# Altium integrated library Renesas Memory.IntLib: 284 symbols (part 6 of 9)
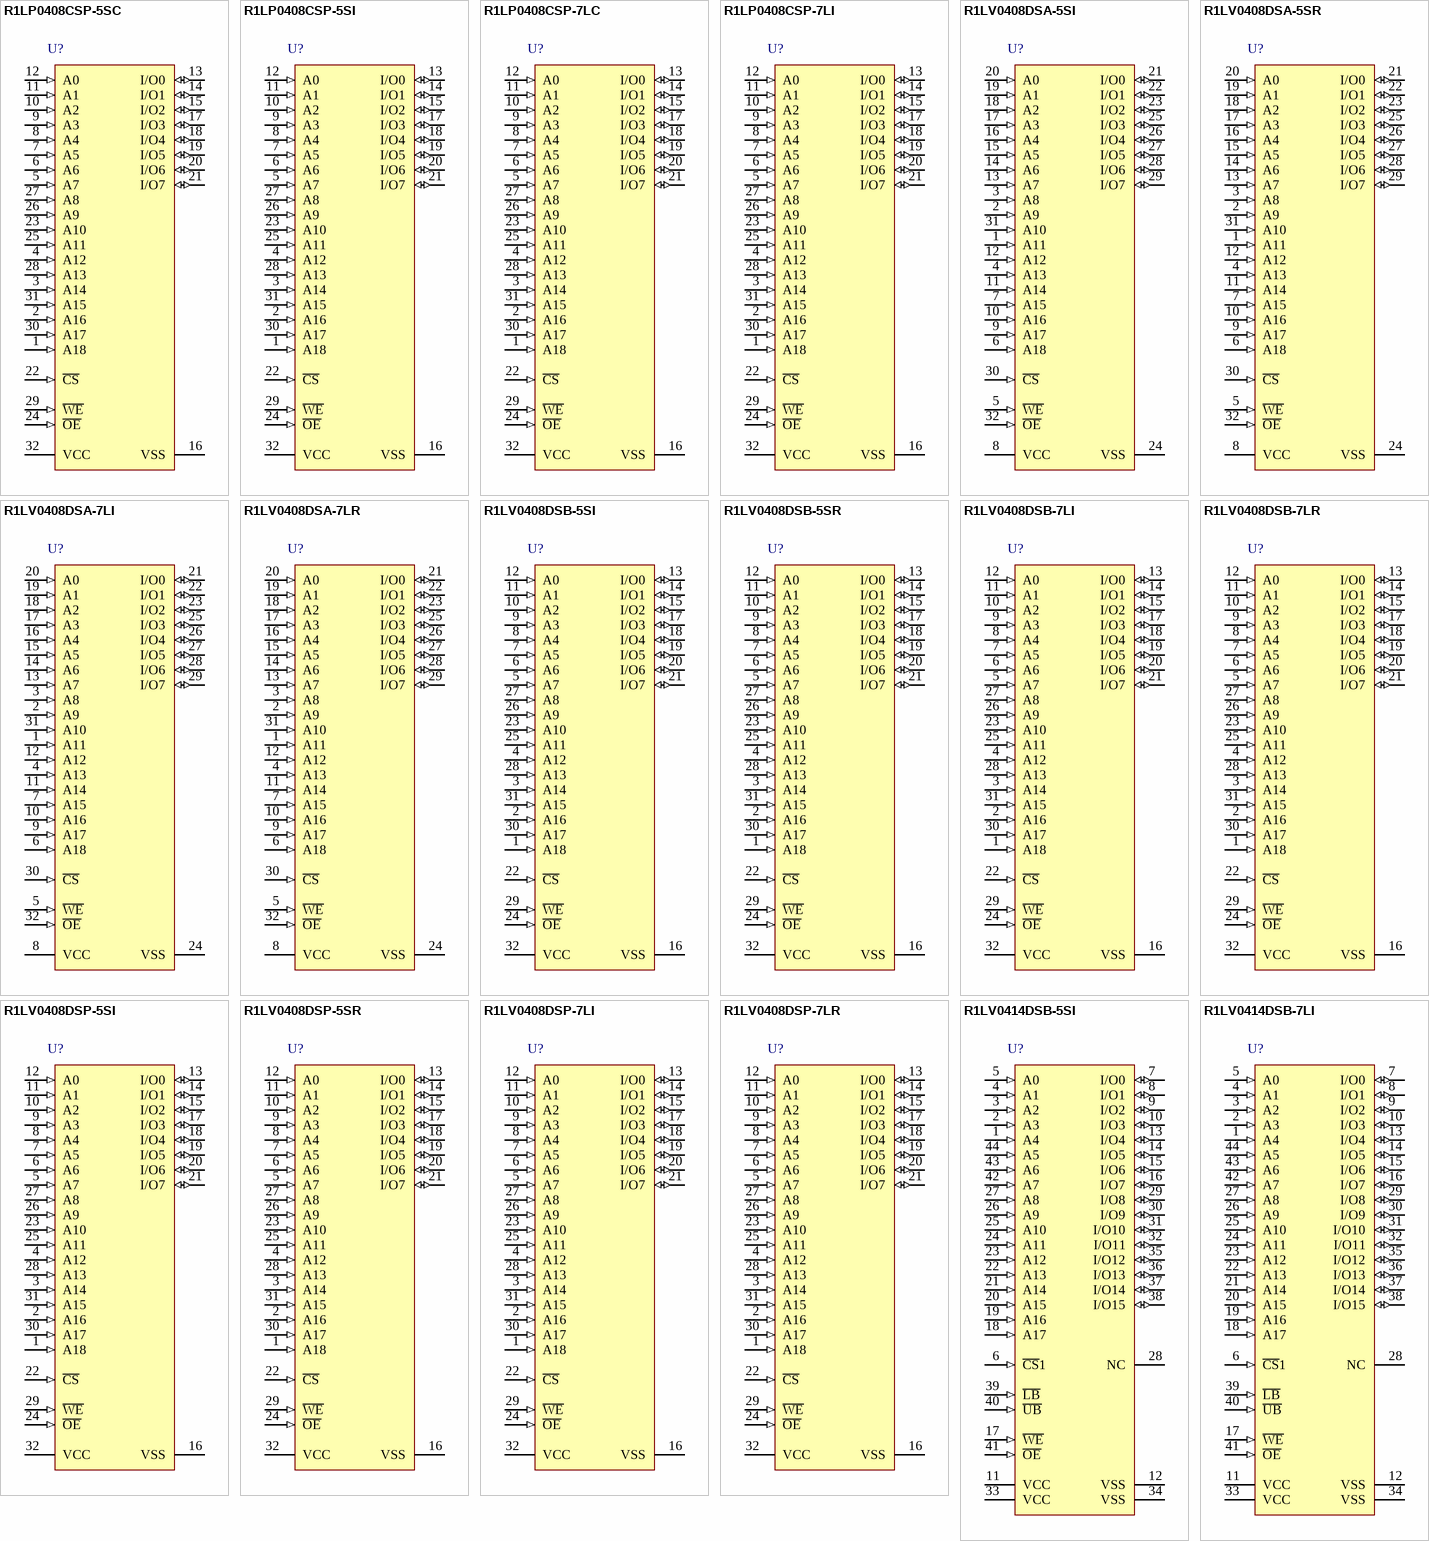
[diagram p20: symbols R1LP0408CSP-5SC to R1LV0414DSB-7LI]

## R1LV0408DSA-5SI
designator U?
R1LV0408D Series 4M SRAM (512-kword x 8-bit); Published: 3-Mar-2010; DatasheetVersion: Rev.1.00, May-2007; PackageVersion: Sep-2005; PackageReference: PTSA0032KB-A; Publisher: Altium Limited; PackageDescription: 32-Pin Plastic Thin Shrink Small Outline Package 0.5 mm Pitch; Code_JEITA: P-TSOP(1)32-8x11.8-0.50; ComponentLink1Description: Manufacturer Link; ComponentLink1URL: http://sg.renesas.com/products/memory/memory_category_landing.jsp; ComponentLink2Description: Datasheet; ComponentLink2URL: http://documentation.renesas.com/eng/products/memory/rej03c0310_r1lv0408d.pdf; ComponentLink3Description: Packaging Specification; ComponentLink3URL: http://sg.renesas.com/media/products/common_info/package/pdf/ic/code/ptsa0032kb_a.pdf
footprint PTSA0032KB-A_N (TSSOP, 32-Leads, Body 8x11.8mm, Pitch 0.5mm, IPC Medium Density)
footprint PTSA0032KB-A_L (TSSOP, 32-Leads, Body 8x11.8mm, Pitch 0.5mm, IPC High Density)
footprint PTSA0032KB-A_M (TSSOP, 32-Leads, Body 8x11.8mm, Pitch 0.5mm, IPC Low Density)
pins: 1 A11 (in), 2 A9 (in), 3 A8 (in), 4 A13 (in), 5 ~{WE} (in), 6 A18 (in), 7 A15 (in), 8 VCC (power), 9 A17 (in), 10 A16 (in), 11 A14 (in), 12 A12 (in), 13 A7 (in), 14 A6 (in), 15 A5 (in), 16 A4 (in), 17 A3 (in), 18 A2 (in), 19 A1 (in), 20 A0 (in), 21 I/O0 (io), 22 I/O1 (io), 23 I/O2 (io), 24 VSS (power), 25 I/O3 (io), 26 I/O4 (io), 27 I/O5 (io), 28 I/O6 (io), 29 I/O7 (io), 30 ~{CS} (in), 31 A10 (in), 32 ~{OE} (in)

## R1LV0408DSA-5SR
designator U?
R1LV0408D Series 4M SRAM (512-kword x 8-bit); Published: 3-Mar-2010; DatasheetVersion: Rev.1.00, May-2007; PackageVersion: Sep-2005; PackageReference: PTSA0032KB-A; Publisher: Altium Limited; PackageDescription: 32-Pin Plastic Thin Shrink Small Outline Package 0.5 mm Pitch; Code_JEITA: P-TSOP(1)32-8x11.8-0.50; ComponentLink1Description: Manufacturer Link; ComponentLink1URL: http://sg.renesas.com/products/memory/memory_category_landing.jsp; ComponentLink2Description: Datasheet; ComponentLink2URL: http://documentation.renesas.com/eng/products/memory/rej03c0310_r1lv0408d.pdf; ComponentLink3Description: Packaging Specification; ComponentLink3URL: http://sg.renesas.com/media/products/common_info/package/pdf/ic/code/ptsa0032kb_a.pdf
footprint PTSA0032KB-A_N (TSSOP, 32-Leads, Body 8x11.8mm, Pitch 0.5mm, IPC Medium Density)
footprint PTSA0032KB-A_L (TSSOP, 32-Leads, Body 8x11.8mm, Pitch 0.5mm, IPC High Density)
footprint PTSA0032KB-A_M (TSSOP, 32-Leads, Body 8x11.8mm, Pitch 0.5mm, IPC Low Density)
pins: 1 A11 (in), 2 A9 (in), 3 A8 (in), 4 A13 (in), 5 ~{WE} (in), 6 A18 (in), 7 A15 (in), 8 VCC (power), 9 A17 (in), 10 A16 (in), 11 A14 (in), 12 A12 (in), 13 A7 (in), 14 A6 (in), 15 A5 (in), 16 A4 (in), 17 A3 (in), 18 A2 (in), 19 A1 (in), 20 A0 (in), 21 I/O0 (io), 22 I/O1 (io), 23 I/O2 (io), 24 VSS (power), 25 I/O3 (io), 26 I/O4 (io), 27 I/O5 (io), 28 I/O6 (io), 29 I/O7 (io), 30 ~{CS} (in), 31 A10 (in), 32 ~{OE} (in)

## R1LV0408DSA-7LI
designator U?
R1LV0408D Series 4M SRAM (512-kword x 8-bit); Published: 3-Mar-2010; DatasheetVersion: Rev.1.00, May-2007; PackageVersion: Sep-2005; PackageReference: PTSA0032KB-A; Publisher: Altium Limited; PackageDescription: 32-Pin Plastic Thin Shrink Small Outline Package 0.5 mm Pitch; Code_JEITA: P-TSOP(1)32-8x11.8-0.50; ComponentLink1Description: Manufacturer Link; ComponentLink1URL: http://sg.renesas.com/products/memory/memory_category_landing.jsp; ComponentLink2Description: Datasheet; ComponentLink2URL: http://documentation.renesas.com/eng/products/memory/rej03c0310_r1lv0408d.pdf; ComponentLink3Description: Packaging Specification; ComponentLink3URL: http://sg.renesas.com/media/products/common_info/package/pdf/ic/code/ptsa0032kb_a.pdf
footprint PTSA0032KB-A_N (TSSOP, 32-Leads, Body 8x11.8mm, Pitch 0.5mm, IPC Medium Density)
footprint PTSA0032KB-A_L (TSSOP, 32-Leads, Body 8x11.8mm, Pitch 0.5mm, IPC High Density)
footprint PTSA0032KB-A_M (TSSOP, 32-Leads, Body 8x11.8mm, Pitch 0.5mm, IPC Low Density)
pins: 1 A11 (in), 2 A9 (in), 3 A8 (in), 4 A13 (in), 5 ~{WE} (in), 6 A18 (in), 7 A15 (in), 8 VCC (power), 9 A17 (in), 10 A16 (in), 11 A14 (in), 12 A12 (in), 13 A7 (in), 14 A6 (in), 15 A5 (in), 16 A4 (in), 17 A3 (in), 18 A2 (in), 19 A1 (in), 20 A0 (in), 21 I/O0 (io), 22 I/O1 (io), 23 I/O2 (io), 24 VSS (power), 25 I/O3 (io), 26 I/O4 (io), 27 I/O5 (io), 28 I/O6 (io), 29 I/O7 (io), 30 ~{CS} (in), 31 A10 (in), 32 ~{OE} (in)

## R1LV0408DSA-7LR
designator U?
R1LV0408D Series 4M SRAM (512-kword x 8-bit); Published: 3-Mar-2010; DatasheetVersion: Rev.1.00, May-2007; PackageVersion: Sep-2005; PackageReference: PTSA0032KB-A; Publisher: Altium Limited; PackageDescription: 32-Pin Plastic Thin Shrink Small Outline Package 0.5 mm Pitch; Code_JEITA: P-TSOP(1)32-8x11.8-0.50; ComponentLink1Description: Manufacturer Link; ComponentLink1URL: http://sg.renesas.com/products/memory/memory_category_landing.jsp; ComponentLink2Description: Datasheet; ComponentLink2URL: http://documentation.renesas.com/eng/products/memory/rej03c0310_r1lv0408d.pdf; ComponentLink3Description: Packaging Specification; ComponentLink3URL: http://sg.renesas.com/media/products/common_info/package/pdf/ic/code/ptsa0032kb_a.pdf
footprint PTSA0032KB-A_N (TSSOP, 32-Leads, Body 8x11.8mm, Pitch 0.5mm, IPC Medium Density)
footprint PTSA0032KB-A_L (TSSOP, 32-Leads, Body 8x11.8mm, Pitch 0.5mm, IPC High Density)
footprint PTSA0032KB-A_M (TSSOP, 32-Leads, Body 8x11.8mm, Pitch 0.5mm, IPC Low Density)
pins: 1 A11 (in), 2 A9 (in), 3 A8 (in), 4 A13 (in), 5 ~{WE} (in), 6 A18 (in), 7 A15 (in), 8 VCC (power), 9 A17 (in), 10 A16 (in), 11 A14 (in), 12 A12 (in), 13 A7 (in), 14 A6 (in), 15 A5 (in), 16 A4 (in), 17 A3 (in), 18 A2 (in), 19 A1 (in), 20 A0 (in), 21 I/O0 (io), 22 I/O1 (io), 23 I/O2 (io), 24 VSS (power), 25 I/O3 (io), 26 I/O4 (io), 27 I/O5 (io), 28 I/O6 (io), 29 I/O7 (io), 30 ~{CS} (in), 31 A10 (in), 32 ~{OE} (in)

## R1LV0408DSB-5SI
designator U?
R1LV0408D Series 4M SRAM (512-kword x 8-bit); Published: 3-Mar-2010; DatasheetVersion: Rev.1.00, May-2007; PackageVersion: Sep-2005; PackageReference: PTSB0032DA-A; Publisher: Altium Limited; PackageDescription: 32-Pin Plastic Small Outline Package 1.27 mm Pitch; Code_JEITA: P-TSOP(2)32-10.16x20.95-1.27; ComponentLink1Description: Manufacturer Link; ComponentLink1URL: http://sg.renesas.com/products/memory/memory_category_landing.jsp; ComponentLink2Description: Datasheet; ComponentLink2URL: http://documentation.renesas.com/eng/products/memory/rej03c0310_r1lv0408d.pdf; ComponentLink3Description: Packaging Specification; ComponentLink3URL: http://sg.renesas.com/media/products/common_info/package/pdf/ic/code/ptsb0032da_a.pdf
footprint PTSB0032DA-A_N (SOP, 32-Leads, Body 20.95x10.16mm, Pitch 1.27mm, IPC Medium Density)
footprint PTSB0032DA-A_L (SOP, 32-Leads, Body 20.95x10.16mm, Pitch 1.27mm, IPC High Density)
footprint PTSB0032DA-A_M (SOP, 32-Leads, Body 20.95x10.16mm, Pitch 1.27mm, IPC Low Density)
pins: 1 A18 (in), 2 A16 (in), 3 A14 (in), 4 A12 (in), 5 A7 (in), 6 A6 (in), 7 A5 (in), 8 A4 (in), 9 A3 (in), 10 A2 (in), 11 A1 (in), 12 A0 (in), 13 I/O0 (io), 14 I/O1 (io), 15 I/O2 (io), 16 VSS (power), 17 I/O3 (io), 18 I/O4 (io), 19 I/O5 (io), 20 I/O6 (io), 21 I/O7 (io), 22 ~{CS} (in), 23 A10 (in), 24 ~{OE} (in), 25 A11 (in), 26 A9 (in), 27 A8 (in), 28 A13 (in), 29 ~{WE} (in), 30 A17 (in), 31 A15 (in), 32 VCC (power)

## R1LV0408DSB-5SR
designator U?
R1LV0408D Series 4M SRAM (512-kword x 8-bit); Published: 3-Mar-2010; DatasheetVersion: Rev.1.00, May-2007; PackageVersion: Sep-2005; PackageReference: PTSB0032DA-A; Publisher: Altium Limited; PackageDescription: 32-Pin Plastic Small Outline Package 1.27 mm Pitch; Code_JEITA: P-TSOP(2)32-10.16x20.95-1.27; ComponentLink1Description: Manufacturer Link; ComponentLink1URL: http://sg.renesas.com/products/memory/memory_category_landing.jsp; ComponentLink2Description: Datasheet; ComponentLink2URL: http://documentation.renesas.com/eng/products/memory/rej03c0310_r1lv0408d.pdf; ComponentLink3Description: Packaging Specification; ComponentLink3URL: http://sg.renesas.com/media/products/common_info/package/pdf/ic/code/ptsb0032da_a.pdf
footprint PTSB0032DA-A_N (SOP, 32-Leads, Body 20.95x10.16mm, Pitch 1.27mm, IPC Medium Density)
footprint PTSB0032DA-A_L (SOP, 32-Leads, Body 20.95x10.16mm, Pitch 1.27mm, IPC High Density)
footprint PTSB0032DA-A_M (SOP, 32-Leads, Body 20.95x10.16mm, Pitch 1.27mm, IPC Low Density)
pins: 1 A18 (in), 2 A16 (in), 3 A14 (in), 4 A12 (in), 5 A7 (in), 6 A6 (in), 7 A5 (in), 8 A4 (in), 9 A3 (in), 10 A2 (in), 11 A1 (in), 12 A0 (in), 13 I/O0 (io), 14 I/O1 (io), 15 I/O2 (io), 16 VSS (power), 17 I/O3 (io), 18 I/O4 (io), 19 I/O5 (io), 20 I/O6 (io), 21 I/O7 (io), 22 ~{CS} (in), 23 A10 (in), 24 ~{OE} (in), 25 A11 (in), 26 A9 (in), 27 A8 (in), 28 A13 (in), 29 ~{WE} (in), 30 A17 (in), 31 A15 (in), 32 VCC (power)

## R1LV0408DSB-7LI
designator U?
R1LV0408D Series 4M SRAM (512-kword x 8-bit); Published: 3-Mar-2010; DatasheetVersion: Rev.1.00, May-2007; PackageVersion: Sep-2005; PackageReference: PTSB0032DA-A; Publisher: Altium Limited; PackageDescription: 32-Pin Plastic Small Outline Package 1.27 mm Pitch; Code_JEITA: P-TSOP(2)32-10.16x20.95-1.27; ComponentLink1Description: Manufacturer Link; ComponentLink1URL: http://sg.renesas.com/products/memory/memory_category_landing.jsp; ComponentLink2Description: Datasheet; ComponentLink2URL: http://documentation.renesas.com/eng/products/memory/rej03c0310_r1lv0408d.pdf; ComponentLink3Description: Packaging Specification; ComponentLink3URL: http://sg.renesas.com/media/products/common_info/package/pdf/ic/code/ptsb0032da_a.pdf
footprint PTSB0032DA-A_N (SOP, 32-Leads, Body 20.95x10.16mm, Pitch 1.27mm, IPC Medium Density)
footprint PTSB0032DA-A_L (SOP, 32-Leads, Body 20.95x10.16mm, Pitch 1.27mm, IPC High Density)
footprint PTSB0032DA-A_M (SOP, 32-Leads, Body 20.95x10.16mm, Pitch 1.27mm, IPC Low Density)
pins: 1 A18 (in), 2 A16 (in), 3 A14 (in), 4 A12 (in), 5 A7 (in), 6 A6 (in), 7 A5 (in), 8 A4 (in), 9 A3 (in), 10 A2 (in), 11 A1 (in), 12 A0 (in), 13 I/O0 (io), 14 I/O1 (io), 15 I/O2 (io), 16 VSS (power), 17 I/O3 (io), 18 I/O4 (io), 19 I/O5 (io), 20 I/O6 (io), 21 I/O7 (io), 22 ~{CS} (in), 23 A10 (in), 24 ~{OE} (in), 25 A11 (in), 26 A9 (in), 27 A8 (in), 28 A13 (in), 29 ~{WE} (in), 30 A17 (in), 31 A15 (in), 32 VCC (power)

## R1LV0408DSB-7LR
designator U?
R1LV0408D Series 4M SRAM (512-kword x 8-bit); Published: 3-Mar-2010; DatasheetVersion: Rev.1.00, May-2007; PackageVersion: Sep-2005; PackageReference: PTSB0032DA-A; Publisher: Altium Limited; PackageDescription: 32-Pin Plastic Small Outline Package 1.27 mm Pitch; Code_JEITA: P-TSOP(2)32-10.16x20.95-1.27; ComponentLink1Description: Manufacturer Link; ComponentLink1URL: http://sg.renesas.com/products/memory/memory_category_landing.jsp; ComponentLink2Description: Datasheet; ComponentLink2URL: http://documentation.renesas.com/eng/products/memory/rej03c0310_r1lv0408d.pdf; ComponentLink3Description: Packaging Specification; ComponentLink3URL: http://sg.renesas.com/media/products/common_info/package/pdf/ic/code/ptsb0032da_a.pdf
footprint PTSB0032DA-A_N (SOP, 32-Leads, Body 20.95x10.16mm, Pitch 1.27mm, IPC Medium Density)
footprint PTSB0032DA-A_L (SOP, 32-Leads, Body 20.95x10.16mm, Pitch 1.27mm, IPC High Density)
footprint PTSB0032DA-A_M (SOP, 32-Leads, Body 20.95x10.16mm, Pitch 1.27mm, IPC Low Density)
pins: 1 A18 (in), 2 A16 (in), 3 A14 (in), 4 A12 (in), 5 A7 (in), 6 A6 (in), 7 A5 (in), 8 A4 (in), 9 A3 (in), 10 A2 (in), 11 A1 (in), 12 A0 (in), 13 I/O0 (io), 14 I/O1 (io), 15 I/O2 (io), 16 VSS (power), 17 I/O3 (io), 18 I/O4 (io), 19 I/O5 (io), 20 I/O6 (io), 21 I/O7 (io), 22 ~{CS} (in), 23 A10 (in), 24 ~{OE} (in), 25 A11 (in), 26 A9 (in), 27 A8 (in), 28 A13 (in), 29 ~{WE} (in), 30 A17 (in), 31 A15 (in), 32 VCC (power)

## R1LV0408DSP-5SI
designator U?
R1LV0408D Series 4M SRAM (512-kword x 8-bit); Published: 3-Mar-2010; DatasheetVersion: Rev.1.00, May-2007; PackageVersion: Sep-2005; PackageReference: PRSP0032DA-A; Publisher: Altium Limited; PackageDescription: 32-Pin Plastic Small Outline Package, 20.8 x 11.4 mm Body, 1.27 mm Pitch; Code_JEITA: P-SOP32-11.4x20.75-1.27; ComponentLink1Description: Manufacturer Link; ComponentLink1URL: http://sg.renesas.com/products/memory/memory_category_landing.jsp; ComponentLink2Description: Datasheet; ComponentLink2URL: http://documentation.renesas.com/eng/products/memory/rej03c0310_r1lv0408d.pdf; ComponentLink3Description: Packaging Specification; ComponentLink3URL: http://sg.renesas.com/media/products/common_info/package/pdf/ic/code/prsp0032da_a.pdf
footprint PRSP0032DA-A_N (SOP, 32-Leads, Body 20.8x11.4mm, Pitch 1.27mm, IPC Medium Density)
footprint PRSP0032DA-A_L (SOP, 32-Leads, Body 20.8x11.4mm, Pitch 1.27mm, IPC High Density)
footprint PRSP0032DA-A_M (SOP, 32-Leads, Body 20.8x11.4mm, Pitch 1.27mm, IPC Low Density)
pins: 1 A18 (in), 2 A16 (in), 3 A14 (in), 4 A12 (in), 5 A7 (in), 6 A6 (in), 7 A5 (in), 8 A4 (in), 9 A3 (in), 10 A2 (in), 11 A1 (in), 12 A0 (in), 13 I/O0 (io), 14 I/O1 (io), 15 I/O2 (io), 16 VSS (power), 17 I/O3 (io), 18 I/O4 (io), 19 I/O5 (io), 20 I/O6 (io), 21 I/O7 (io), 22 ~{CS} (in), 23 A10 (in), 24 ~{OE} (in), 25 A11 (in), 26 A9 (in), 27 A8 (in), 28 A13 (in), 29 ~{WE} (in), 30 A17 (in), 31 A15 (in), 32 VCC (power)

## R1LV0408DSP-5SR
designator U?
R1LV0408D Series 4M SRAM (512-kword x 8-bit); Published: 3-Mar-2010; DatasheetVersion: Rev.1.00, May-2007; PackageVersion: Sep-2005; PackageReference: PRSP0032DA-A; Publisher: Altium Limited; PackageDescription: 32-Pin Plastic Small Outline Package, 20.8 x 11.4 mm Body, 1.27 mm Pitch; Code_JEITA: P-SOP32-11.4x20.75-1.27; ComponentLink1Description: Manufacturer Link; ComponentLink1URL: http://sg.renesas.com/products/memory/memory_category_landing.jsp; ComponentLink2Description: Datasheet; ComponentLink2URL: http://documentation.renesas.com/eng/products/memory/rej03c0310_r1lv0408d.pdf; ComponentLink3Description: Packaging Specification; ComponentLink3URL: http://sg.renesas.com/media/products/common_info/package/pdf/ic/code/prsp0032da_a.pdf
footprint PRSP0032DA-A_N (SOP, 32-Leads, Body 20.8x11.4mm, Pitch 1.27mm, IPC Medium Density)
footprint PRSP0032DA-A_L (SOP, 32-Leads, Body 20.8x11.4mm, Pitch 1.27mm, IPC High Density)
footprint PRSP0032DA-A_M (SOP, 32-Leads, Body 20.8x11.4mm, Pitch 1.27mm, IPC Low Density)
pins: 1 A18 (in), 2 A16 (in), 3 A14 (in), 4 A12 (in), 5 A7 (in), 6 A6 (in), 7 A5 (in), 8 A4 (in), 9 A3 (in), 10 A2 (in), 11 A1 (in), 12 A0 (in), 13 I/O0 (io), 14 I/O1 (io), 15 I/O2 (io), 16 VSS (power), 17 I/O3 (io), 18 I/O4 (io), 19 I/O5 (io), 20 I/O6 (io), 21 I/O7 (io), 22 ~{CS} (in), 23 A10 (in), 24 ~{OE} (in), 25 A11 (in), 26 A9 (in), 27 A8 (in), 28 A13 (in), 29 ~{WE} (in), 30 A17 (in), 31 A15 (in), 32 VCC (power)

## R1LV0408DSP-7LI
designator U?
R1LV0408D Series 4M SRAM (512-kword x 8-bit); Published: 3-Mar-2010; DatasheetVersion: Rev.1.00, May-2007; PackageVersion: Sep-2005; PackageReference: PRSP0032DA-A; Publisher: Altium Limited; PackageDescription: 32-Pin Plastic Small Outline Package, 20.8 x 11.4 mm Body, 1.27 mm Pitch; Code_JEITA: P-SOP32-11.4x20.75-1.27; ComponentLink1Description: Manufacturer Link; ComponentLink1URL: http://sg.renesas.com/products/memory/memory_category_landing.jsp; ComponentLink2Description: Datasheet; ComponentLink2URL: http://documentation.renesas.com/eng/products/memory/rej03c0310_r1lv0408d.pdf; ComponentLink3Description: Packaging Specification; ComponentLink3URL: http://sg.renesas.com/media/products/common_info/package/pdf/ic/code/prsp0032da_a.pdf
footprint PRSP0032DA-A_N (SOP, 32-Leads, Body 20.8x11.4mm, Pitch 1.27mm, IPC Medium Density)
footprint PRSP0032DA-A_L (SOP, 32-Leads, Body 20.8x11.4mm, Pitch 1.27mm, IPC High Density)
footprint PRSP0032DA-A_M (SOP, 32-Leads, Body 20.8x11.4mm, Pitch 1.27mm, IPC Low Density)
pins: 1 A18 (in), 2 A16 (in), 3 A14 (in), 4 A12 (in), 5 A7 (in), 6 A6 (in), 7 A5 (in), 8 A4 (in), 9 A3 (in), 10 A2 (in), 11 A1 (in), 12 A0 (in), 13 I/O0 (io), 14 I/O1 (io), 15 I/O2 (io), 16 VSS (power), 17 I/O3 (io), 18 I/O4 (io), 19 I/O5 (io), 20 I/O6 (io), 21 I/O7 (io), 22 ~{CS} (in), 23 A10 (in), 24 ~{OE} (in), 25 A11 (in), 26 A9 (in), 27 A8 (in), 28 A13 (in), 29 ~{WE} (in), 30 A17 (in), 31 A15 (in), 32 VCC (power)

## R1LV0408DSP-7LR
designator U?
R1LV0408D Series 4M SRAM (512-kword x 8-bit); Published: 3-Mar-2010; DatasheetVersion: Rev.1.00, May-2007; PackageVersion: Sep-2005; PackageReference: PRSP0032DA-A; Publisher: Altium Limited; PackageDescription: 32-Pin Plastic Small Outline Package, 20.8 x 11.4 mm Body, 1.27 mm Pitch; Code_JEITA: P-SOP32-11.4x20.75-1.27; ComponentLink1Description: Manufacturer Link; ComponentLink1URL: http://sg.renesas.com/products/memory/memory_category_landing.jsp; ComponentLink2Description: Datasheet; ComponentLink2URL: http://documentation.renesas.com/eng/products/memory/rej03c0310_r1lv0408d.pdf; ComponentLink3Description: Packaging Specification; ComponentLink3URL: http://sg.renesas.com/media/products/common_info/package/pdf/ic/code/prsp0032da_a.pdf
footprint PRSP0032DA-A_N (SOP, 32-Leads, Body 20.8x11.4mm, Pitch 1.27mm, IPC Medium Density)
footprint PRSP0032DA-A_L (SOP, 32-Leads, Body 20.8x11.4mm, Pitch 1.27mm, IPC High Density)
footprint PRSP0032DA-A_M (SOP, 32-Leads, Body 20.8x11.4mm, Pitch 1.27mm, IPC Low Density)
pins: 1 A18 (in), 2 A16 (in), 3 A14 (in), 4 A12 (in), 5 A7 (in), 6 A6 (in), 7 A5 (in), 8 A4 (in), 9 A3 (in), 10 A2 (in), 11 A1 (in), 12 A0 (in), 13 I/O0 (io), 14 I/O1 (io), 15 I/O2 (io), 16 VSS (power), 17 I/O3 (io), 18 I/O4 (io), 19 I/O5 (io), 20 I/O6 (io), 21 I/O7 (io), 22 ~{CS} (in), 23 A10 (in), 24 ~{OE} (in), 25 A11 (in), 26 A9 (in), 27 A8 (in), 28 A13 (in), 29 ~{WE} (in), 30 A17 (in), 31 A15 (in), 32 VCC (power)

## R1LV0414DSB-5SI
designator U?
R1LV0414D Series 4M SRAM (256-kword x 16-bit); Published: 3-Mar-2010; DatasheetVersion: Rev.1.00, May-2007; PackageVersion: Sep-2005; PackageReference: PTSB0044GA-A; Publisher: Altium Limited; PackageDescription: 44-Pin Plastic Small Outline Package 0.8 mm Pitch; Code_JEITA: P-TSOP(2)44-10.16x18.41-0.80; ComponentLink1Description: Manufacturer Link; ComponentLink1URL: http://sg.renesas.com/products/memory/memory_category_landing.jsp; ComponentLink2Description: Datasheet; ComponentLink2URL: http://documentation.renesas.com/eng/products/memory/rej03c0312_r1lv0414d.pdf; ComponentLink3Description: Packaging Specification; ComponentLink3URL: http://sg.renesas.com/media/products/common_info/package/pdf/ic/code/ptsb0044ga_a.pdf
footprint PTSB0044GA-A_N (SOP, 44-Leads, Body 18.4x10.16mm, Pitch 0.8mm, IPC Medium Density)
footprint PTSB0044GA-A_L (SOP, 44-Leads, Body 18.4x10.16mm, Pitch 0.8mm, IPC High Density)
footprint PTSB0044GA-A_M (SOP, 44-Leads, Body 18.4x10.16mm, Pitch 0.8mm, IPC Low Density)
pins: 1 A4 (in), 2 A3 (in), 3 A2 (in), 4 A1 (in), 5 A0 (in), 6 ~{CS}1 (in), 7 I/O0 (io), 8 I/O1 (io), 9 I/O2 (io), 10 I/O3 (io), 11 VCC (power), 12 VSS (power), 13 I/O4 (io), 14 I/O5 (io), 15 I/O6 (io), 16 I/O7 (io), 17 ~{WE} (in), 18 A17 (in), 19 A16 (in), 20 A15 (in), 21 A14 (in), 22 A13 (in), 23 A12 (in), 24 A11 (in), 25 A10 (in), 26 A9 (in), 27 A8 (in), 28 NC, 29 I/O8 (io), 30 I/O9 (io), 31 I/O10 (io), 32 I/O11 (io), 33 VCC (power), 34 VSS (power), 35 I/O12 (io), 36 I/O13 (io), 37 I/O14 (io), 38 I/O15 (io), 39 ~{LB} (in), 40 ~{UB} (in), 41 ~{OE} (in), 42 A7 (in), 43 A6 (in), 44 A5 (in)

## R1LV0414DSB-7LI
designator U?
R1LV0414D Series 4M SRAM (256-kword x 16-bit); Published: 3-Mar-2010; DatasheetVersion: Rev.1.00, May-2007; PackageVersion: Sep-2005; PackageReference: PTSB0044GA-A; Publisher: Altium Limited; PackageDescription: 44-Pin Plastic Small Outline Package 0.8 mm Pitch; Code_JEITA: P-TSOP(2)44-10.16x18.41-0.80; ComponentLink1Description: Manufacturer Link; ComponentLink1URL: http://sg.renesas.com/products/memory/memory_category_landing.jsp; ComponentLink2Description: Datasheet; ComponentLink2URL: http://documentation.renesas.com/eng/products/memory/rej03c0312_r1lv0414d.pdf; ComponentLink3Description: Packaging Specification; ComponentLink3URL: http://sg.renesas.com/media/products/common_info/package/pdf/ic/code/ptsb0044ga_a.pdf
footprint PTSB0044GA-A_N (SOP, 44-Leads, Body 18.4x10.16mm, Pitch 0.8mm, IPC Medium Density)
footprint PTSB0044GA-A_L (SOP, 44-Leads, Body 18.4x10.16mm, Pitch 0.8mm, IPC High Density)
footprint PTSB0044GA-A_M (SOP, 44-Leads, Body 18.4x10.16mm, Pitch 0.8mm, IPC Low Density)
pins: 1 A4 (in), 2 A3 (in), 3 A2 (in), 4 A1 (in), 5 A0 (in), 6 ~{CS}1 (in), 7 I/O0 (io), 8 I/O1 (io), 9 I/O2 (io), 10 I/O3 (io), 11 VCC (power), 12 VSS (power), 13 I/O4 (io), 14 I/O5 (io), 15 I/O6 (io), 16 I/O7 (io), 17 ~{WE} (in), 18 A17 (in), 19 A16 (in), 20 A15 (in), 21 A14 (in), 22 A13 (in), 23 A12 (in), 24 A11 (in), 25 A10 (in), 26 A9 (in), 27 A8 (in), 28 NC, 29 I/O8 (io), 30 I/O9 (io), 31 I/O10 (io), 32 I/O11 (io), 33 VCC (power), 34 VSS (power), 35 I/O12 (io), 36 I/O13 (io), 37 I/O14 (io), 38 I/O15 (io), 39 ~{LB} (in), 40 ~{UB} (in), 41 ~{OE} (in), 42 A7 (in), 43 A6 (in), 44 A5 (in)

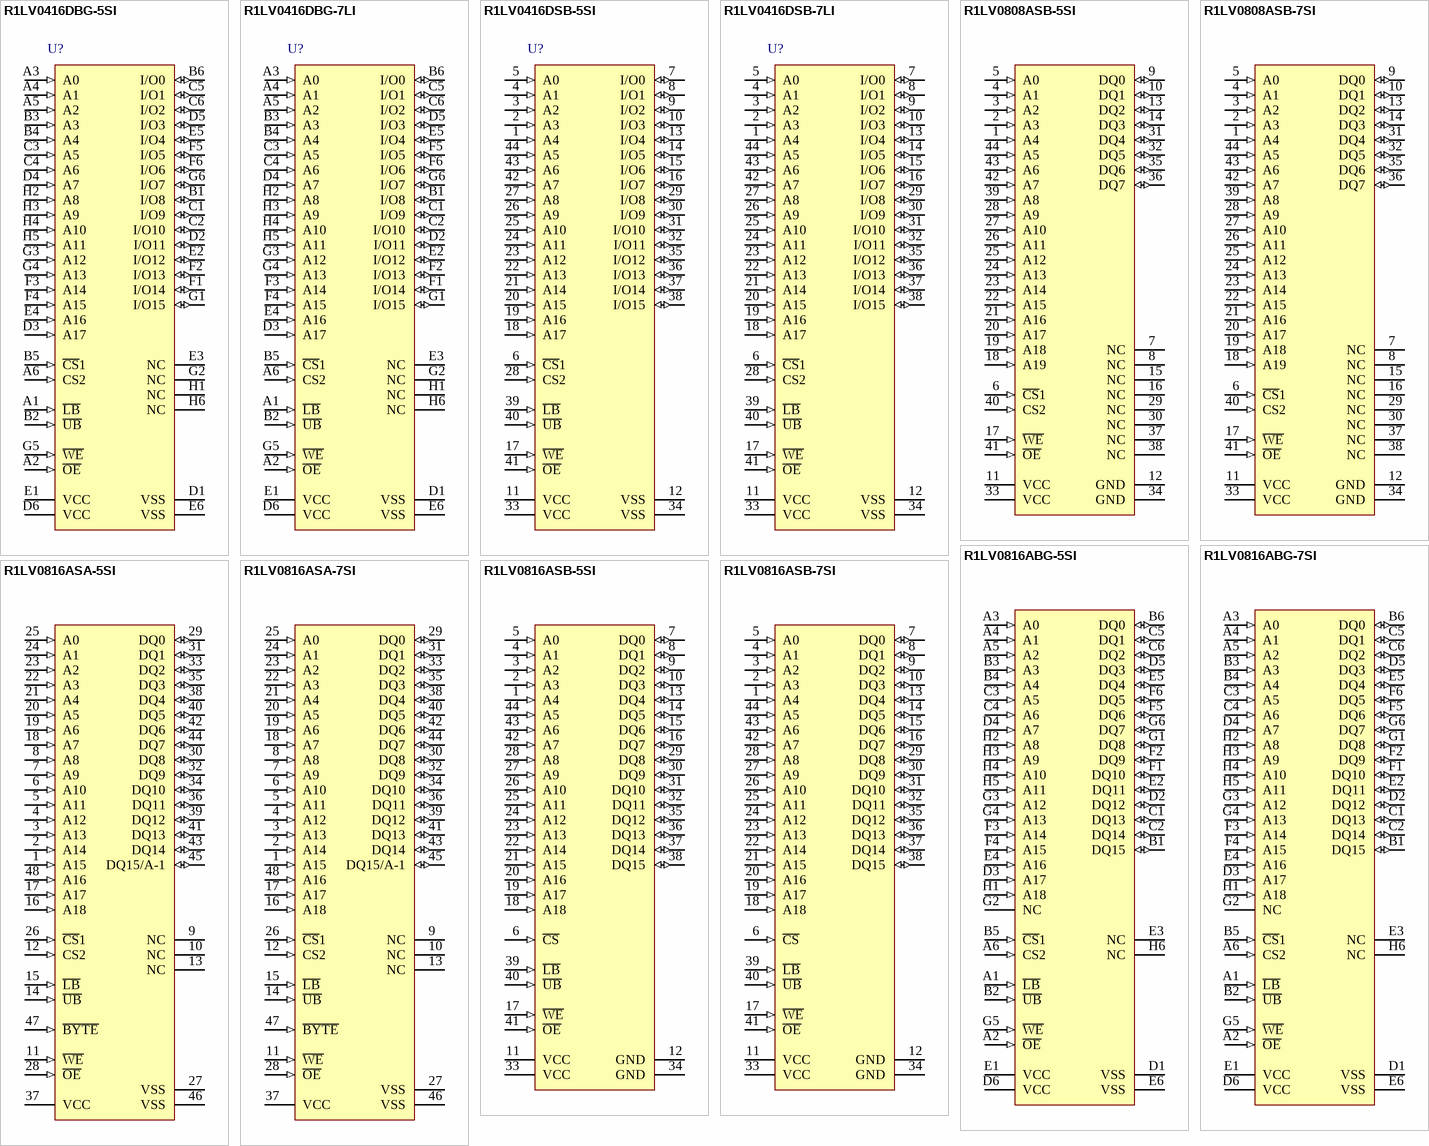
[diagram p9: symbols R1LV0416DBG-5SI to R1LV0816ASB-7SI]

## R1LV0416DBG-5SI
designator U?
R1LV0416D Series 4M SRAM (256-kword x 16-bit); Published: 3-Mar-2010; DatasheetVersion: Rev.1.00, May-2007; PackageVersion: Sep-2005; PackageReference: PTBG0048HB-A; Publisher: Altium Limited; PackageDescription: 48-Ball Plastic Thin Fine-Pitch BGA, 8.5 x7.5 mm Body, 0.75 mm Pitch; Supplier 1: Digi-Key; Supplier Part Number 1: R1LV0416DBG-5SI-ND; Code_JEITA: P-TFBGA48-7.5x8.5-0.75; ComponentLink1Description: Manufacturer Link; ComponentLink1URL: http://sg.renesas.com/products/memory/memory_category_landing.jsp; ComponentLink2Description: Datasheet; ComponentLink2URL: http://documentation.renesas.com/eng/products/memory/rej03c0311_r1lv0416d.pdf; ComponentLink3Description: Packaging Specification; ComponentLink3URL: http://sg.renesas.com/media/products/common_info/package/pdf/ic/code/ptbg0048hb_a.pdf
footprint PTBG0048HB-A (BGA, 48-Leads, Body 8.5x7.5mm, Pitch 0.75mm)
pins: A1 ~{LB} (in), A2 ~{OE} (in), A3 A0 (in), A4 A1 (in), A5 A2 (in), A6 CS2 (in), B1 I/O8 (io), B2 ~{UB} (in), B3 A3 (in), B4 A4 (in), B5 ~{CS}1 (in), B6 I/O0 (io), C1 I/O9 (io), C2 I/O10 (io), C3 A5 (in), C4 A6 (in), C5 I/O1 (io), C6 I/O2 (io), D1 VSS (power), D2 I/O11 (io), D3 A17 (in), D4 A7 (in), D5 I/O3 (io), D6 VCC (power), E1 VCC (power), E2 I/O12 (io), E3 NC, E4 A16 (in), E5 I/O4 (io), E6 VSS (power), F1 I/O14 (io), F2 I/O13 (io), F3 A14 (in), F4 A15 (in), F5 I/O5 (io), F6 I/O6 (io), G1 I/O15 (io), G2 NC, G3 A12 (in), G4 A13 (in), G5 ~{WE} (in), G6 I/O7 (io), H1 NC, H2 A8 (in), H3 A9 (in), H4 A10 (in), H5 A11 (in), H6 NC

## R1LV0416DBG-7LI
designator U?
R1LV0416D Series 4M SRAM (256-kword x 16-bit); Published: 3-Mar-2010; DatasheetVersion: Rev.1.00, May-2007; PackageVersion: Sep-2005; PackageReference: PTBG0048HB-A; Publisher: Altium Limited; PackageDescription: 48-Ball Plastic Thin Fine-Pitch BGA, 8.5 x7.5 mm Body, 0.75 mm Pitch; Code_JEITA: P-TFBGA48-7.5x8.5-0.75; ComponentLink1Description: Manufacturer Link; ComponentLink1URL: http://sg.renesas.com/products/memory/memory_category_landing.jsp; ComponentLink2Description: Datasheet; ComponentLink2URL: http://documentation.renesas.com/eng/products/memory/rej03c0311_r1lv0416d.pdf; ComponentLink3Description: Packaging Specification; ComponentLink3URL: http://sg.renesas.com/media/products/common_info/package/pdf/ic/code/ptbg0048hb_a.pdf
footprint PTBG0048HB-A (BGA, 48-Leads, Body 8.5x7.5mm, Pitch 0.75mm)
pins: A1 ~{LB} (in), A2 ~{OE} (in), A3 A0 (in), A4 A1 (in), A5 A2 (in), A6 CS2 (in), B1 I/O8 (io), B2 ~{UB} (in), B3 A3 (in), B4 A4 (in), B5 ~{CS}1 (in), B6 I/O0 (io), C1 I/O9 (io), C2 I/O10 (io), C3 A5 (in), C4 A6 (in), C5 I/O1 (io), C6 I/O2 (io), D1 VSS (power), D2 I/O11 (io), D3 A17 (in), D4 A7 (in), D5 I/O3 (io), D6 VCC (power), E1 VCC (power), E2 I/O12 (io), E3 NC, E4 A16 (in), E5 I/O4 (io), E6 VSS (power), F1 I/O14 (io), F2 I/O13 (io), F3 A14 (in), F4 A15 (in), F5 I/O5 (io), F6 I/O6 (io), G1 I/O15 (io), G2 NC, G3 A12 (in), G4 A13 (in), G5 ~{WE} (in), G6 I/O7 (io), H1 NC, H2 A8 (in), H3 A9 (in), H4 A10 (in), H5 A11 (in), H6 NC

## R1LV0416DSB-5SI
designator U?
R1LV0416D Series 4M SRAM (256-kword x 16-bit); Published: 3-Mar-2010; DatasheetVersion: Rev.1.00, May-2007; PackageVersion: Sep-2005; PackageReference: PTSB0044GA-A; Publisher: Altium Limited; PackageDescription: 44-Pin Plastic Small Outline Package 0.8 mm Pitch; Code_JEITA: P-TSOP(2)44-10.16x18.41-0.80; ComponentLink1Description: Manufacturer Link; ComponentLink1URL: http://sg.renesas.com/products/memory/memory_category_landing.jsp; ComponentLink2Description: Datasheet; ComponentLink2URL: http://documentation.renesas.com/eng/products/memory/rej03c0311_r1lv0416d.pdf; ComponentLink3Description: Packaging Specification; ComponentLink3URL: http://sg.renesas.com/media/products/common_info/package/pdf/ic/code/ptsb0044ga_a.pdf
footprint PTSB0044GA-A_N (SOP, 44-Leads, Body 18.4x10.16mm, Pitch 0.8mm, IPC Medium Density)
footprint PTSB0044GA-A_L (SOP, 44-Leads, Body 18.4x10.16mm, Pitch 0.8mm, IPC High Density)
footprint PTSB0044GA-A_M (SOP, 44-Leads, Body 18.4x10.16mm, Pitch 0.8mm, IPC Low Density)
pins: 1 A4 (in), 2 A3 (in), 3 A2 (in), 4 A1 (in), 5 A0 (in), 6 ~{CS}1 (in), 7 I/O0 (io), 8 I/O1 (io), 9 I/O2 (io), 10 I/O3 (io), 11 VCC (power), 12 VSS (power), 13 I/O4 (io), 14 I/O5 (io), 15 I/O6 (io), 16 I/O7 (io), 17 ~{WE} (in), 18 A17 (in), 19 A16 (in), 20 A15 (in), 21 A14 (in), 22 A13 (in), 23 A12 (in), 24 A11 (in), 25 A10 (in), 26 A9 (in), 27 A8 (in), 28 CS2 (in), 29 I/O8 (io), 30 I/O9 (io), 31 I/O10 (io), 32 I/O11 (io), 33 VCC (power), 34 VSS (power), 35 I/O12 (io), 36 I/O13 (io), 37 I/O14 (io), 38 I/O15 (io), 39 ~{LB} (in), 40 ~{UB} (in), 41 ~{OE} (in), 42 A7 (in), 43 A6 (in), 44 A5 (in)

## R1LV0416DSB-7LI
designator U?
R1LV0416D Series 4M SRAM (256-kword x 16-bit); Published: 3-Mar-2010; DatasheetVersion: Rev.1.00, May-2007; PackageVersion: Sep-2005; PackageReference: PTSB0044GA-A; Publisher: Altium Limited; PackageDescription: 44-Pin Plastic Small Outline Package 0.8 mm Pitch; Code_JEITA: P-TSOP(2)44-10.16x18.41-0.80; ComponentLink1Description: Manufacturer Link; ComponentLink1URL: http://sg.renesas.com/products/memory/memory_category_landing.jsp; ComponentLink2Description: Datasheet; ComponentLink2URL: http://documentation.renesas.com/eng/products/memory/rej03c0311_r1lv0416d.pdf; ComponentLink3Description: Packaging Specification; ComponentLink3URL: http://sg.renesas.com/media/products/common_info/package/pdf/ic/code/ptsb0044ga_a.pdf
footprint PTSB0044GA-A_N (SOP, 44-Leads, Body 18.4x10.16mm, Pitch 0.8mm, IPC Medium Density)
footprint PTSB0044GA-A_L (SOP, 44-Leads, Body 18.4x10.16mm, Pitch 0.8mm, IPC High Density)
footprint PTSB0044GA-A_M (SOP, 44-Leads, Body 18.4x10.16mm, Pitch 0.8mm, IPC Low Density)
pins: 1 A4 (in), 2 A3 (in), 3 A2 (in), 4 A1 (in), 5 A0 (in), 6 ~{CS}1 (in), 7 I/O0 (io), 8 I/O1 (io), 9 I/O2 (io), 10 I/O3 (io), 11 VCC (power), 12 VSS (power), 13 I/O4 (io), 14 I/O5 (io), 15 I/O6 (io), 16 I/O7 (io), 17 ~{WE} (in), 18 A17 (in), 19 A16 (in), 20 A15 (in), 21 A14 (in), 22 A13 (in), 23 A12 (in), 24 A11 (in), 25 A10 (in), 26 A9 (in), 27 A8 (in), 28 CS2 (in), 29 I/O8 (io), 30 I/O9 (io), 31 I/O10 (io), 32 I/O11 (io), 33 VCC (power), 34 VSS (power), 35 I/O12 (io), 36 I/O13 (io), 37 I/O14 (io), 38 I/O15 (io), 39 ~{LB} (in), 40 ~{UB} (in), 41 ~{OE} (in), 42 A7 (in), 43 A6 (in), 44 A5 (in)

## R1LV0808ASB-5SI
designator ?
R1LV0808ASB Series 8Mb Advanced LPSRAM (1024k word x 8bit); Published: 3-Mar-2010; DatasheetVersion: Rev.1.00, Aug-2009; PackageVersion: Jun-2009; PackageReference: PTSB0044GD-B; Publisher: Altium Limited; PackageDescription: 44-Pin Plastic Small Outline Package 0.8 mm Pitch; Code_JEITA: P-TSOP(2)44-10.16x18.41-0.80; ComponentLink1Description: Manufacturer Link; ComponentLink1URL: http://sg.renesas.com/products/memory/memory_category_landing.jsp; ComponentLink2Description: Datasheet; ComponentLink2URL: http://documentation.renesas.com/eng/products/memory/rej03c0394_r1lv0808asb_ds.pdf; ComponentLink3Description: Packaging Specification; ComponentLink3URL: http://sg.renesas.com/media/products/common_info/package/pdf/ic/code/ptsb0044gd_b.pdf
footprint PTSB0044GD-B_N (SOP, 44-Leads, Body 18.4x10.16mm, Pitch 0.8mm, IPC Medium Density)
footprint PTSB0044GD-B_L (SOP, 44-Leads, Body 18.4x10.16mm, Pitch 0.8mm, IPC High Density)
footprint PTSB0044GD-B_M (SOP, 44-Leads, Body 18.4x10.16mm, Pitch 0.8mm, IPC Low Density)
pins: 1 A4 (in), 2 A3 (in), 3 A2 (in), 4 A1 (in), 5 A0 (in), 6 ~{CS}1 (in), 7 NC, 8 NC, 9 DQ0 (io), 10 DQ1 (io), 11 VCC (power), 12 GND (power), 13 DQ2 (io), 14 DQ3 (io), 15 NC, 16 NC, 17 ~{WE} (in), 18 A19 (in), 19 A18 (in), 20 A17 (in), 21 A16 (in), 22 A15 (in), 23 A14 (in), 24 A13 (in), 25 A12 (in), 26 A11 (in), 27 A10 (in), 28 A9 (in), 29 NC, 30 NC, 31 DQ4 (io), 32 DQ5 (io), 33 VCC (power), 34 GND (power), 35 DQ6 (io), 36 DQ7 (io), 37 NC, 38 NC, 39 A8 (in), 40 CS2 (in), 41 ~{OE} (in), 42 A7 (in), 43 A6 (in), 44 A5 (in)

## R1LV0808ASB-7SI
designator ?
R1LV0808ASB Series 8Mb Advanced LPSRAM (1024k word x 8bit); Published: 3-Mar-2010; DatasheetVersion: Rev.1.00, Aug-2009; PackageVersion: Jun-2009; PackageReference: PTSB0044GD-B; Publisher: Altium Limited; PackageDescription: 44-Pin Plastic Small Outline Package 0.8 mm Pitch; Code_JEITA: P-TSOP(2)44-10.16x18.41-0.80; ComponentLink1Description: Manufacturer Link; ComponentLink1URL: http://sg.renesas.com/products/memory/memory_category_landing.jsp; ComponentLink2Description: Datasheet; ComponentLink2URL: http://documentation.renesas.com/eng/products/memory/rej03c0394_r1lv0808asb_ds.pdf; ComponentLink3Description: Packaging Specification; ComponentLink3URL: http://sg.renesas.com/media/products/common_info/package/pdf/ic/code/ptsb0044gd_b.pdf
footprint PTSB0044GD-B_N (SOP, 44-Leads, Body 18.4x10.16mm, Pitch 0.8mm, IPC Medium Density)
footprint PTSB0044GD-B_L (SOP, 44-Leads, Body 18.4x10.16mm, Pitch 0.8mm, IPC High Density)
footprint PTSB0044GD-B_M (SOP, 44-Leads, Body 18.4x10.16mm, Pitch 0.8mm, IPC Low Density)
pins: 1 A4 (in), 2 A3 (in), 3 A2 (in), 4 A1 (in), 5 A0 (in), 6 ~{CS}1 (in), 7 NC, 8 NC, 9 DQ0 (io), 10 DQ1 (io), 11 VCC (power), 12 GND (power), 13 DQ2 (io), 14 DQ3 (io), 15 NC, 16 NC, 17 ~{WE} (in), 18 A19 (in), 19 A18 (in), 20 A17 (in), 21 A16 (in), 22 A15 (in), 23 A14 (in), 24 A13 (in), 25 A12 (in), 26 A11 (in), 27 A10 (in), 28 A9 (in), 29 NC, 30 NC, 31 DQ4 (io), 32 DQ5 (io), 33 VCC (power), 34 GND (power), 35 DQ6 (io), 36 DQ7 (io), 37 NC, 38 NC, 39 A8 (in), 40 CS2 (in), 41 ~{OE} (in), 42 A7 (in), 43 A6 (in), 44 A5 (in)

## R1LV0816ABG-5SI
designator ?
R1LV0816ABG Series 8Mb Advanced LPSRAM (512k word x 16bit); Published: 3-Mar-2010; DatasheetVersion: Rev.1.00, Aug-2009; PackageVersion: Sep-2005; PackageReference: PTBG0048HB-A; Publisher: Altium Limited; PackageDescription: 48-Ball Plastic Thin Fine-Pitch BGA, 8.5 x7.5 mm Body, 0.75 mm Pitch; Supplier 1: Digi-Key; Supplier Part Number 1: R1LV0816ABG-5SI-ND; Code_JEITA: P-TFBGA48-7.5x8.5-0.75; ComponentLink1Description: Manufacturer Link; ComponentLink1URL: http://sg.renesas.com/products/memory/memory_category_landing.jsp; ComponentLink2Description: Datasheet; ComponentLink2URL: http://documentation.renesas.com/eng/products/memory/rej03c0393_r1lv0816abg_ds.pdf; ComponentLink3Description: Packaging Specification; ComponentLink3URL: http://sg.renesas.com/media/products/common_info/package/pdf/ic/code/ptbg0048hb_a.pdf
footprint PTBG0048HB-A (BGA, 48-Leads, Body 8.5x7.5mm, Pitch 0.75mm)
pins: A1 ~{LB} (in), A2 ~{OE} (in), A3 A0 (in), A4 A1 (in), A5 A2 (in), A6 CS2 (in), B1 DQ15 (io), B2 ~{UB} (in), B3 A3 (in), B4 A4 (in), B5 ~{CS}1 (in), B6 DQ0 (io), C1 DQ13 (io), C2 DQ14 (io), C3 A5 (in), C4 A6 (in), C5 DQ1 (io), C6 DQ2 (io), D1 VSS (power), D2 DQ12 (io), D3 A17 (in), D4 A7 (in), D5 DQ3 (io), D6 VCC (power), E1 VCC (power), E2 DQ11 (io), E3 NC, E4 A16 (in), E5 DQ4 (io), E6 VSS (power), F1 DQ10 (io), F2 DQ9 (io), F3 A14 (in), F4 A15 (in), F5 DQ6 (io), F6 DQ5 (io), G1 DQ8 (io), G2 NC, G3 A12 (in), G4 A13 (in), G5 ~{WE} (in), G6 DQ7 (io), H1 A18 (in), H2 A8 (in), H3 A9 (in), H4 A10 (in), H5 A11 (in), H6 NC

## R1LV0816ABG-7SI
designator ?
R1LV0816ABG Series 8Mb Advanced LPSRAM (512k word x 16bit); Published: 3-Mar-2010; DatasheetVersion: Rev.1.00, Aug-2009; PackageVersion: Sep-2005; PackageReference: PTBG0048HB-A; Publisher: Altium Limited; PackageDescription: 48-Ball Plastic Thin Fine-Pitch BGA, 8.5 x7.5 mm Body, 0.75 mm Pitch; Code_JEITA: P-TFBGA48-7.5x8.5-0.75; ComponentLink1Description: Manufacturer Link; ComponentLink1URL: http://sg.renesas.com/products/memory/memory_category_landing.jsp; ComponentLink2Description: Datasheet; ComponentLink2URL: http://documentation.renesas.com/eng/products/memory/rej03c0393_r1lv0816abg_ds.pdf; ComponentLink3Description: Packaging Specification; ComponentLink3URL: http://sg.renesas.com/media/products/common_info/package/pdf/ic/code/ptbg0048hb_a.pdf
footprint PTBG0048HB-A (BGA, 48-Leads, Body 8.5x7.5mm, Pitch 0.75mm)
pins: A1 ~{LB} (in), A2 ~{OE} (in), A3 A0 (in), A4 A1 (in), A5 A2 (in), A6 CS2 (in), B1 DQ15 (io), B2 ~{UB} (in), B3 A3 (in), B4 A4 (in), B5 ~{CS}1 (in), B6 DQ0 (io), C1 DQ13 (io), C2 DQ14 (io), C3 A5 (in), C4 A6 (in), C5 DQ1 (io), C6 DQ2 (io), D1 VSS (power), D2 DQ12 (io), D3 A17 (in), D4 A7 (in), D5 DQ3 (io), D6 VCC (power), E1 VCC (power), E2 DQ11 (io), E3 NC, E4 A16 (in), E5 DQ4 (io), E6 VSS (power), F1 DQ10 (io), F2 DQ9 (io), F3 A14 (in), F4 A15 (in), F5 DQ6 (io), F6 DQ5 (io), G1 DQ8 (io), G2 NC, G3 A12 (in), G4 A13 (in), G5 ~{WE} (in), G6 DQ7 (io), H1 A18 (in), H2 A8 (in), H3 A9 (in), H4 A10 (in), H5 A11 (in), H6 NC

## R1LV0816ASA-5SI
designator ?
R1LV0816ASA Series 8Mb Advanced LPSRAM (512k word x 16bit / 1M word x 8bit); Published: 3-Mar-2010; DatasheetVersion: Rev.1.00, Aug-2009; PackageVersion: Sep-2005; PackageReference: PTSA0048KA-A; Publisher: Altium Limited; PackageDescription: 48-Pin Plastic Thin Shrink Small Outline Package 0.5 mm Pitch; Code_JEITA: P-TSOP(1)48-12x18.4-0.50; ComponentLink1Description: Manufacturer Link; ComponentLink1URL: http://sg.renesas.com/products/memory/memory_category_landing.jsp; ComponentLink2Description: Datasheet; ComponentLink2URL: http://documentation.renesas.com/eng/products/memory/rej03c0395_r1lv0816asa_ds.pdf; ComponentLink3Description: Packaging Specification; ComponentLink3URL: http://sg.renesas.com/media/products/common_info/package/pdf/ic/code/ptsa0048ka_a.pdf
footprint PTSA0048KA-A_N (TSSOP, 48-Leads, Body 12x18.4mm, Pitch 0.5mm, IPC Medium Density)
footprint PTSA0048KA-A_L (TSSOP, 48-Leads, Body 12x18.4mm, Pitch 0.5mm, IPC High Density)
footprint PTSA0048KA-A_M (TSSOP, 48-Leads, Body 12x18.4mm, Pitch 0.5mm, IPC Low Density)
pins: 1 A15 (in), 2 A14 (in), 3 A13 (in), 4 A12 (in), 5 A11 (in), 6 A10 (in), 7 A9 (in), 8 A8 (in), 9 NC, 10 NC, 11 ~{WE} (in), 12 CS2 (in), 13 NC, 14 ~{UB} (in), 15 ~{LB} (in), 16 A18 (in), 17 A17 (in), 18 A7 (in), 19 A6 (in), 20 A5 (in), 21 A4 (in), 22 A3 (in), 23 A2 (in), 24 A1 (in), 25 A0 (in), 26 ~{CS}1 (in), 27 VSS (power), 28 ~{OE} (in), 29 DQ0 (io), 30 DQ8 (io), 31 DQ1 (io), 32 DQ9 (io), 33 DQ2 (io), 34 DQ10 (io), 35 DQ3 (io), 36 DQ11 (io), 37 VCC (power), 38 DQ4 (io), 39 DQ12 (io), 40 DQ5 (io), 41 DQ13 (io), 42 DQ6 (io), 43 DQ14 (io), 44 DQ7 (io), 45 DQ15/A-1 (io), 46 VSS (power), 47 ~{BYTE} (in), 48 A16 (in)

## R1LV0816ASA-7SI
designator ?
R1LV0816ASA Series 8Mb Advanced LPSRAM (512k word x 16bit / 1M word x 8bit); Published: 3-Mar-2010; DatasheetVersion: Rev.1.00, Aug-2009; PackageVersion: Sep-2005; PackageReference: PTSA0048KA-A; Publisher: Altium Limited; PackageDescription: 48-Pin Plastic Thin Shrink Small Outline Package 0.5 mm Pitch; Code_JEITA: P-TSOP(1)48-12x18.4-0.50; ComponentLink1Description: Manufacturer Link; ComponentLink1URL: http://sg.renesas.com/products/memory/memory_category_landing.jsp; ComponentLink2Description: Datasheet; ComponentLink2URL: http://documentation.renesas.com/eng/products/memory/rej03c0395_r1lv0816asa_ds.pdf; ComponentLink3Description: Packaging Specification; ComponentLink3URL: http://sg.renesas.com/media/products/common_info/package/pdf/ic/code/ptsa0048ka_a.pdf
footprint PTSA0048KA-A_N (TSSOP, 48-Leads, Body 12x18.4mm, Pitch 0.5mm, IPC Medium Density)
footprint PTSA0048KA-A_L (TSSOP, 48-Leads, Body 12x18.4mm, Pitch 0.5mm, IPC High Density)
footprint PTSA0048KA-A_M (TSSOP, 48-Leads, Body 12x18.4mm, Pitch 0.5mm, IPC Low Density)
pins: 1 A15 (in), 2 A14 (in), 3 A13 (in), 4 A12 (in), 5 A11 (in), 6 A10 (in), 7 A9 (in), 8 A8 (in), 9 NC, 10 NC, 11 ~{WE} (in), 12 CS2 (in), 13 NC, 14 ~{UB} (in), 15 ~{LB} (in), 16 A18 (in), 17 A17 (in), 18 A7 (in), 19 A6 (in), 20 A5 (in), 21 A4 (in), 22 A3 (in), 23 A2 (in), 24 A1 (in), 25 A0 (in), 26 ~{CS}1 (in), 27 VSS (power), 28 ~{OE} (in), 29 DQ0 (io), 30 DQ8 (io), 31 DQ1 (io), 32 DQ9 (io), 33 DQ2 (io), 34 DQ10 (io), 35 DQ3 (io), 36 DQ11 (io), 37 VCC (power), 38 DQ4 (io), 39 DQ12 (io), 40 DQ5 (io), 41 DQ13 (io), 42 DQ6 (io), 43 DQ14 (io), 44 DQ7 (io), 45 DQ15/A-1 (io), 46 VSS (power), 47 ~{BYTE} (in), 48 A16 (in)

## R1LV0816ASB-5SI
designator ?
R1LV0816ASB Series 8Mb Advanced LPSRAM (512k word x 16bit); Published: 3-Mar-2010; DatasheetVersion: Rev.1.00, Dec-2009; PackageVersion: Jun-2009; PackageReference: PTSB0044GD-B; Publisher: Altium Limited; PackageDescription: 44-Pin Plastic Small Outline Package 0.8 mm Pitch; Code_JEITA: P-TSOP(2)44-10.16x18.41-0.80; ComponentLink1Description: Manufacturer Link; ComponentLink1URL: http://sg.renesas.com/products/memory/memory_category_landing.jsp; ComponentLink2Description: Datasheet; ComponentLink2URL: http://documentation.renesas.com/eng/products/memory/rej03c0387_r1lv0816asb_ds.pdf; ComponentLink3Description: Packaging Specification; ComponentLink3URL: http://sg.renesas.com/media/products/common_info/package/pdf/ic/code/ptsb0044gd_b.pdf
footprint PTSB0044GD-B_N (SOP, 44-Leads, Body 18.4x10.16mm, Pitch 0.8mm, IPC Medium Density)
footprint PTSB0044GD-B_L (SOP, 44-Leads, Body 18.4x10.16mm, Pitch 0.8mm, IPC High Density)
footprint PTSB0044GD-B_M (SOP, 44-Leads, Body 18.4x10.16mm, Pitch 0.8mm, IPC Low Density)
pins: 1 A4 (in), 2 A3 (in), 3 A2 (in), 4 A1 (in), 5 A0 (in), 6 ~{CS} (in), 7 DQ0 (io), 8 DQ1 (io), 9 DQ2 (io), 10 DQ3 (io), 11 VCC (power), 12 GND (power), 13 DQ4 (io), 14 DQ5 (io), 15 DQ6 (io), 16 DQ7 (io), 17 ~{WE} (in), 18 A18 (in), 19 A17 (in), 20 A16 (in), 21 A15 (in), 22 A14 (in), 23 A13 (in), 24 A12 (in), 25 A11 (in), 26 A10 (in), 27 A9 (in), 28 A8 (in), 29 DQ8 (io), 30 DQ9 (io), 31 DQ10 (io), 32 DQ11 (io), 33 VCC (power), 34 GND (power), 35 DQ12 (io), 36 DQ13 (io), 37 DQ14 (io), 38 DQ15 (io), 39 ~{LB} (in), 40 ~{UB} (in), 41 ~{OE} (in), 42 A7 (in), 43 A6 (in), 44 A5 (in)

## R1LV0816ASB-7SI
designator ?
R1LV0816ASB Series 8Mb Advanced LPSRAM (512k word x 16bit); Published: 3-Mar-2010; DatasheetVersion: Rev.1.00, Dec-2009; PackageVersion: Jun-2009; PackageReference: PTSB0044GD-B; Publisher: Altium Limited; PackageDescription: 44-Pin Plastic Small Outline Package 0.8 mm Pitch; Code_JEITA: P-TSOP(2)44-10.16x18.41-0.80; ComponentLink1Description: Manufacturer Link; ComponentLink1URL: http://sg.renesas.com/products/memory/memory_category_landing.jsp; ComponentLink2Description: Datasheet; ComponentLink2URL: http://documentation.renesas.com/eng/products/memory/rej03c0387_r1lv0816asb_ds.pdf; ComponentLink3Description: Packaging Specification; ComponentLink3URL: http://sg.renesas.com/media/products/common_info/package/pdf/ic/code/ptsb0044gd_b.pdf
footprint PTSB0044GD-B_N (SOP, 44-Leads, Body 18.4x10.16mm, Pitch 0.8mm, IPC Medium Density)
footprint PTSB0044GD-B_L (SOP, 44-Leads, Body 18.4x10.16mm, Pitch 0.8mm, IPC High Density)
footprint PTSB0044GD-B_M (SOP, 44-Leads, Body 18.4x10.16mm, Pitch 0.8mm, IPC Low Density)
pins: 1 A4 (in), 2 A3 (in), 3 A2 (in), 4 A1 (in), 5 A0 (in), 6 ~{CS} (in), 7 DQ0 (io), 8 DQ1 (io), 9 DQ2 (io), 10 DQ3 (io), 11 VCC (power), 12 GND (power), 13 DQ4 (io), 14 DQ5 (io), 15 DQ6 (io), 16 DQ7 (io), 17 ~{WE} (in), 18 A18 (in), 19 A17 (in), 20 A16 (in), 21 A15 (in), 22 A14 (in), 23 A13 (in), 24 A12 (in), 25 A11 (in), 26 A10 (in), 27 A9 (in), 28 A8 (in), 29 DQ8 (io), 30 DQ9 (io), 31 DQ10 (io), 32 DQ11 (io), 33 VCC (power), 34 GND (power), 35 DQ12 (io), 36 DQ13 (io), 37 DQ14 (io), 38 DQ15 (io), 39 ~{LB} (in), 40 ~{UB} (in), 41 ~{OE} (in), 42 A7 (in), 43 A6 (in), 44 A5 (in)

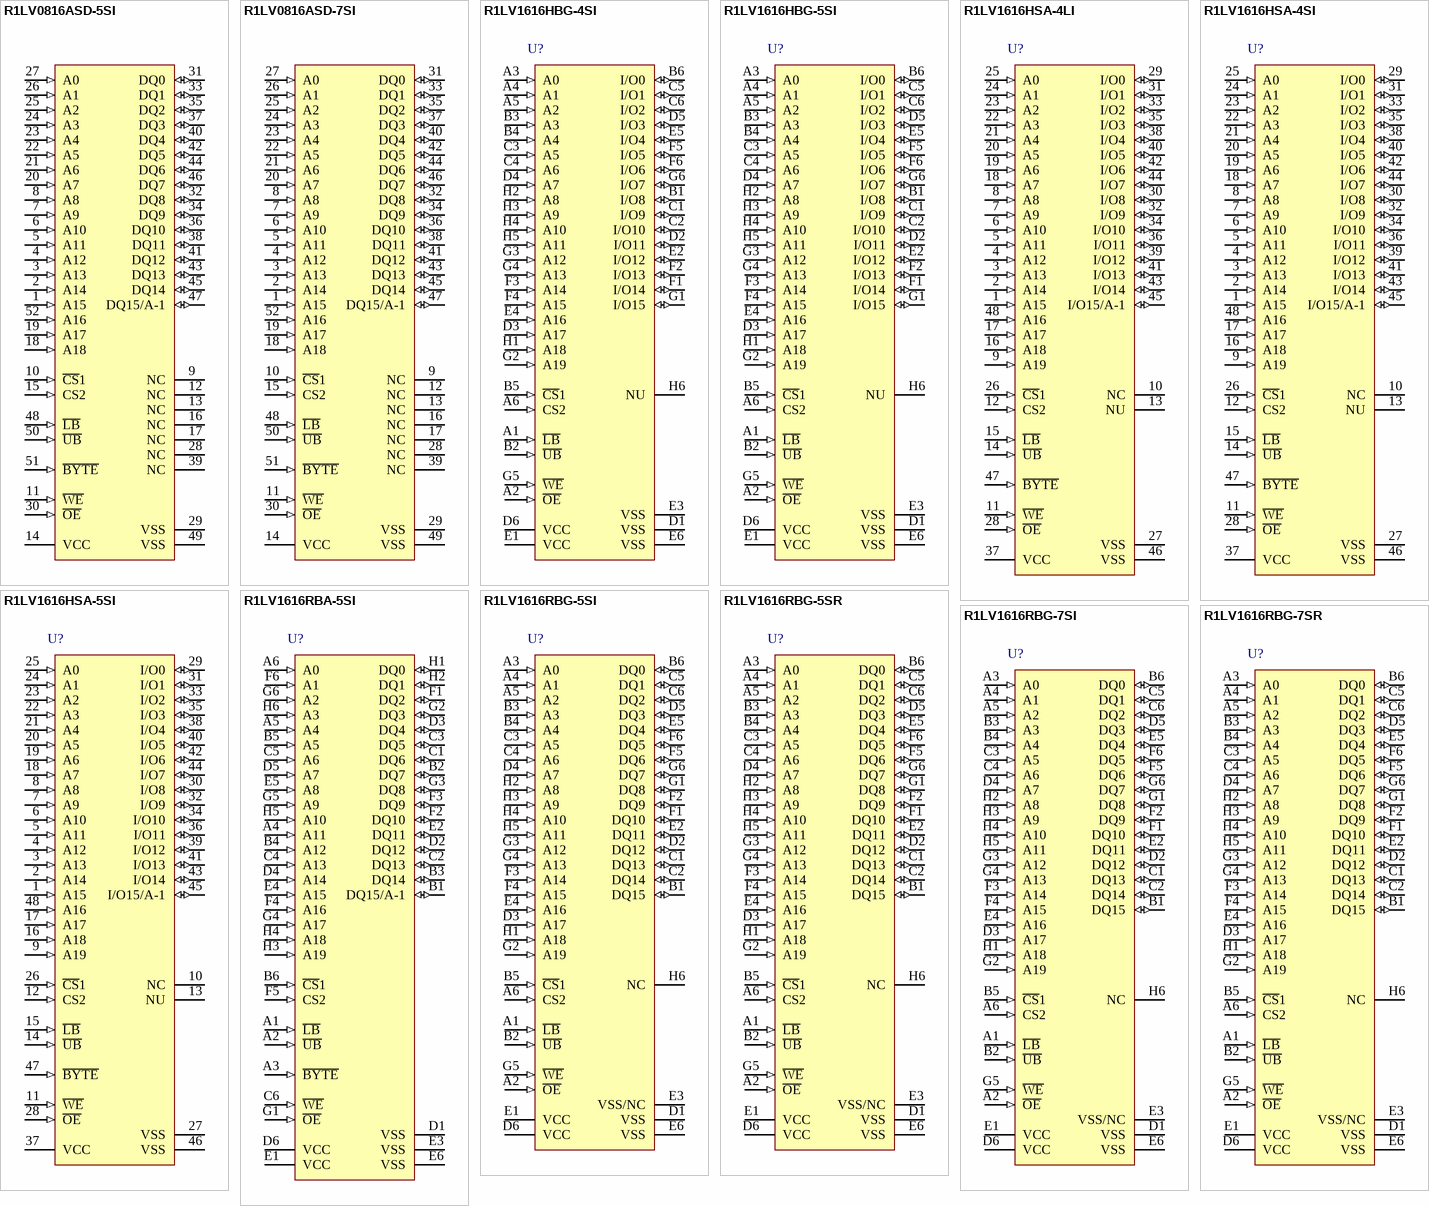
[diagram p10: symbols R1LV0816ASD-5SI to R1LV1616RBG-7SR]

## R1LV0816ASD-5SI
designator ?
R1LV0816ASD Series 8Mb Advanced LPSRAM (512k word x 16bit / 1M word x 8bit); Published: 3-Mar-2010; DatasheetVersion: Rev.0.01, Aug-2009; PackageVersion: Sep-2005; PackageReference: PTSB0052LB-A; Publisher: Altium Limited; PackageDescription: 52-Pin Thin Shrink Small Outline Package 0.4 mm Pitch; Code_JEITA: P-TSOP(2)52-8.89x10.79-0.40; ComponentLink1Description: Manufacturer Link; ComponentLink1URL: http://sg.renesas.com/products/memory/memory_category_landing.jsp; ComponentLink2Description: Datasheet; ComponentLink2URL: http://documentation.renesas.com/eng/products/memory/rej03c0397_r1lv0816asd_ds.pdf; ComponentLink3Description: Packaging Specification; ComponentLink3URL: http://sg.renesas.com/media/products/common_info/package/pdf/ic/code/ptsb0052lb_a.pdf
footprint PTSB0052LB-A_N (TSSOP, 52-Leads, Body 10.8x8.9mm, Pitch 0.4mm, IPC Medium Density)
footprint PTSB0052LB-A_L (TSSOP, 52-Leads, Body 10.8x8.9mm, Pitch 0.4mm, IPC High Density)
footprint PTSB0052LB-A_M (TSSOP, 52-Leads, Body 10.8x8.9mm, Pitch 0.4mm, IPC Low Density)
pins: 1 A15 (in), 2 A14 (in), 3 A13 (in), 4 A12 (in), 5 A11 (in), 6 A10 (in), 7 A9 (in), 8 A8 (in), 9 NC, 10 ~{CS}1 (in), 11 ~{WE} (in), 12 NC, 13 NC, 14 VCC (power), 15 CS2 (in), 16 NC, 17 NC, 18 A18 (in), 19 A17 (in), 20 A7 (in), 21 A6 (in), 22 A5 (in), 23 A4 (in), 24 A3 (in), 25 A2 (in), 26 A1 (in), 27 A0 (in), 28 NC, 29 VSS (power), 30 ~{OE} (in), 31 DQ0 (io), 32 DQ8 (io), 33 DQ1 (io), 34 DQ9 (io), 35 DQ2 (io), 36 DQ10 (io), 37 DQ3 (io), 38 DQ11 (io), 39 NC, 40 DQ4 (io), 41 DQ12 (io), 42 DQ5 (io), 43 DQ13 (io), 44 DQ6 (io), 45 DQ14 (io), 46 DQ7 (io), 47 DQ15/A-1 (io), 48 ~{LB} (in), 49 VSS (power), 50 ~{UB} (in), 51 ~{BYTE} (in), 52 A16 (in)

## R1LV0816ASD-7SI
designator ?
R1LV0816ASD Series 8Mb Advanced LPSRAM (512k word x 16bit / 1M word x 8bit); Published: 3-Mar-2010; DatasheetVersion: Rev.0.01, Aug-2009; PackageVersion: Sep-2005; PackageReference: PTSB0052LB-A; Publisher: Altium Limited; PackageDescription: 52-Pin Thin Shrink Small Outline Package 0.4 mm Pitch; Code_JEITA: P-TSOP(2)52-8.89x10.79-0.40; ComponentLink1Description: Manufacturer Link; ComponentLink1URL: http://sg.renesas.com/products/memory/memory_category_landing.jsp; ComponentLink2Description: Datasheet; ComponentLink2URL: http://documentation.renesas.com/eng/products/memory/rej03c0397_r1lv0816asd_ds.pdf; ComponentLink3Description: Packaging Specification; ComponentLink3URL: http://sg.renesas.com/media/products/common_info/package/pdf/ic/code/ptsb0052lb_a.pdf
footprint PTSB0052LB-A_N (TSSOP, 52-Leads, Body 10.8x8.9mm, Pitch 0.4mm, IPC Medium Density)
footprint PTSB0052LB-A_L (TSSOP, 52-Leads, Body 10.8x8.9mm, Pitch 0.4mm, IPC High Density)
footprint PTSB0052LB-A_M (TSSOP, 52-Leads, Body 10.8x8.9mm, Pitch 0.4mm, IPC Low Density)
pins: 1 A15 (in), 2 A14 (in), 3 A13 (in), 4 A12 (in), 5 A11 (in), 6 A10 (in), 7 A9 (in), 8 A8 (in), 9 NC, 10 ~{CS}1 (in), 11 ~{WE} (in), 12 NC, 13 NC, 14 VCC (power), 15 CS2 (in), 16 NC, 17 NC, 18 A18 (in), 19 A17 (in), 20 A7 (in), 21 A6 (in), 22 A5 (in), 23 A4 (in), 24 A3 (in), 25 A2 (in), 26 A1 (in), 27 A0 (in), 28 NC, 29 VSS (power), 30 ~{OE} (in), 31 DQ0 (io), 32 DQ8 (io), 33 DQ1 (io), 34 DQ9 (io), 35 DQ2 (io), 36 DQ10 (io), 37 DQ3 (io), 38 DQ11 (io), 39 NC, 40 DQ4 (io), 41 DQ12 (io), 42 DQ5 (io), 43 DQ13 (io), 44 DQ6 (io), 45 DQ14 (io), 46 DQ7 (io), 47 DQ15/A-1 (io), 48 ~{LB} (in), 49 VSS (power), 50 ~{UB} (in), 51 ~{BYTE} (in), 52 A16 (in)

## R1LV1616HBG-4SI
designator U?
R1LV1616H-I Series 16M SRAM (1-Mword x 16-bit) Wide Temperature Range Version; Published: 3-Mar-2010; DatasheetVersion: Rev.1.00, Sep-2005; PackageVersion: Aug-2006; PackageReference: PTBG0048HF-A; Publisher: Altium Limited; PackageDescription: 48-Ball Plastic Thin Fine-Pitch BGA, 9.5 x 8 mm Body, 0.75 mm Pitch; Code_JEITA: P-TFBGA48-8x9.5-0.75; ComponentLink1Description: Manufacturer Link; ComponentLink1URL: http://sg.renesas.com/products/memory/memory_category_landing.jsp; ComponentLink2Description: Datasheet; ComponentLink2URL: http://documentation.renesas.com/eng/products/memory/rej03c0263_r1lv1616hbg.pdf; ComponentLink3Description: Packaging Specification; ComponentLink3URL: http://sg.renesas.com/media/products/common_info/package/pdf/ic/code/ptbg0048hf_a.pdf
footprint PTBG0048HF-A (BGA, 48-Leads, Body 9.5x8mm, Pitch 0.75mm)
pins: A1 ~{LB} (in), A2 ~{OE} (in), A3 A0 (in), A4 A1 (in), A5 A2 (in), A6 CS2 (in), B1 I/O8 (io), B2 ~{UB} (in), B3 A3 (in), B4 A4 (in), B5 ~{CS}1 (in), B6 I/O0 (io), C1 I/O9 (io), C2 I/O10 (io), C3 A5 (in), C4 A6 (in), C5 I/O1 (io), C6 I/O2 (io), D1 VSS (power), D2 I/O11 (io), D3 A17 (in), D4 A7 (in), D5 I/O3 (io), D6 VCC (power), E1 VCC (power), E2 I/O12 (io), E3 VSS (power), E4 A16 (in), E5 I/O4 (io), E6 VSS (power), F1 I/O14 (io), F2 I/O13 (io), F3 A14 (in), F4 A15 (in), F5 I/O5 (io), F6 I/O6 (io), G1 I/O15 (io), G2 A19 (in), G3 A12 (in), G4 A13 (in), G5 ~{WE} (in), G6 I/O7 (io), H1 A18 (in), H2 A8 (in), H3 A9 (in), H4 A10 (in), H5 A11 (in), H6 NU

## R1LV1616HBG-5SI
designator U?
R1LV1616H-I Series 16M SRAM (1-Mword x 16-bit) Wide Temperature Range Version; Published: 3-Mar-2010; DatasheetVersion: Rev.1.00, Sep-2005; PackageVersion: Aug-2006; PackageReference: PTBG0048HF-A; Publisher: Altium Limited; PackageDescription: 48-Ball Plastic Thin Fine-Pitch BGA, 9.5 x 8 mm Body, 0.75 mm Pitch; Code_JEITA: P-TFBGA48-8x9.5-0.75; ComponentLink1Description: Manufacturer Link; ComponentLink1URL: http://sg.renesas.com/products/memory/memory_category_landing.jsp; ComponentLink2Description: Datasheet; ComponentLink2URL: http://documentation.renesas.com/eng/products/memory/rej03c0263_r1lv1616hbg.pdf; ComponentLink3Description: Packaging Specification; ComponentLink3URL: http://sg.renesas.com/media/products/common_info/package/pdf/ic/code/ptbg0048hf_a.pdf
footprint PTBG0048HF-A (BGA, 48-Leads, Body 9.5x8mm, Pitch 0.75mm)
pins: A1 ~{LB} (in), A2 ~{OE} (in), A3 A0 (in), A4 A1 (in), A5 A2 (in), A6 CS2 (in), B1 I/O8 (io), B2 ~{UB} (in), B3 A3 (in), B4 A4 (in), B5 ~{CS}1 (in), B6 I/O0 (io), C1 I/O9 (io), C2 I/O10 (io), C3 A5 (in), C4 A6 (in), C5 I/O1 (io), C6 I/O2 (io), D1 VSS (power), D2 I/O11 (io), D3 A17 (in), D4 A7 (in), D5 I/O3 (io), D6 VCC (power), E1 VCC (power), E2 I/O12 (io), E3 VSS (power), E4 A16 (in), E5 I/O4 (io), E6 VSS (power), F1 I/O14 (io), F2 I/O13 (io), F3 A14 (in), F4 A15 (in), F5 I/O5 (io), F6 I/O6 (io), G1 I/O15 (io), G2 A19 (in), G3 A12 (in), G4 A13 (in), G5 ~{WE} (in), G6 I/O7 (io), H1 A18 (in), H2 A8 (in), H3 A9 (in), H4 A10 (in), H5 A11 (in), H6 NU

## R1LV1616HSA-4LI
designator U?
R1LV1616H-I Series 16M SRAM (1-Mword x 16-bit / 2-Mword x 8-bit) Wide Temperature Range Version; Published: 3-Mar-2010; DatasheetVersion: Rev.1.01, Nov-2004; PackageVersion: Sep-2005; PackageReference: PTSA0048KA-A; Publisher: Altium Limited; PackageDescription: 48-Pin Plastic Thin Shrink Small Outline Package 0.5 mm Pitch; Code_JEITA: P-TSOP(1)48-12x18.4-0.50; ComponentLink1Description: Manufacturer Link; ComponentLink1URL: http://sg.renesas.com/products/memory/memory_category_landing.jsp; ComponentLink2Description: Datasheet; ComponentLink2URL: http://documentation.renesas.com/eng/products/memory/rej03c0195_r1lv1616hi.pdf; ComponentLink3Description: Packaging Specification; ComponentLink3URL: http://sg.renesas.com/media/products/common_info/package/pdf/ic/code/ptsa0048ka_a.pdf
footprint PTSA0048KA-A_N (TSSOP, 48-Leads, Body 12x18.4mm, Pitch 0.5mm, IPC Medium Density)
footprint PTSA0048KA-A_L (TSSOP, 48-Leads, Body 12x18.4mm, Pitch 0.5mm, IPC High Density)
footprint PTSA0048KA-A_M (TSSOP, 48-Leads, Body 12x18.4mm, Pitch 0.5mm, IPC Low Density)
pins: 1 A15 (in), 2 A14 (in), 3 A13 (in), 4 A12 (in), 5 A11 (in), 6 A10 (in), 7 A9 (in), 8 A8 (in), 9 A19 (in), 10 NC, 11 ~{WE} (in), 12 CS2 (in), 13 NU, 14 ~{UB} (in), 15 ~{LB} (in), 16 A18 (in), 17 A17 (in), 18 A7 (in), 19 A6 (in), 20 A5 (in), 21 A4 (in), 22 A3 (in), 23 A2 (in), 24 A1 (in), 25 A0 (in), 26 ~{CS}1 (in), 27 VSS (power), 28 ~{OE} (in), 29 I/O0 (io), 30 I/O8 (io), 31 I/O1 (io), 32 I/O9 (io), 33 I/O2 (io), 34 I/O10 (io), 35 I/O3 (io), 36 I/O11 (io), 37 VCC (power), 38 I/O4 (io), 39 I/O12 (io), 40 I/O5 (io), 41 I/O13 (io), 42 I/O6 (io), 43 I/O14 (io), 44 I/O7 (io), 45 I/O15/A-1 (io), 46 VSS (power), 47 ~{BYTE} (in), 48 A16 (in)